# Altium schematic symbol library i18n5.SchLib: 5 symbols
Pins are listed as number, name and electrical type; pins without a type are passive.

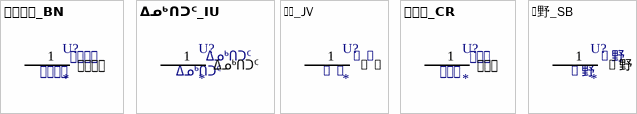
[diagram p0: symbols রোধক_BN to 𠮷野_SB]

## রোধক_BN
designator U?  value রোধক
Script: Bengali
pins: 1 রোধক

## ᐃᓄᒃᑎᑐᑦ_IU
designator U?  value ᐃᓄᒃᑎᑐᑦ
Script: Canadian Aboriginal Syllabics, Inuktitut
pins: 1 ᐃᓄᒃᑎᑐᑦ

## ꦗꦮ_JV
designator U?  value ꦗꦮ
Script: Javanese
pins: 1 ꦗꦮ

## ᏣᎳᎩ_CR
designator U?  value ᏣᎳᎩ
Script: Cherokee
pins: 1 ᏣᎳᎩ

## 𠮷野_SB
designator U?  value 𠮷野
Script: Han beyond the BMP: surrogate pair
pins: 1 𠮷野